# Altium schematic symbol library IND 15UH 3.2A 50 MOHM.Schlib: 1 symbol
Pins are listed as number, name and electrical type; pins without a type are passive.

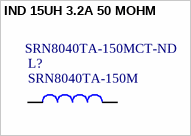
[diagram p0: symbol IND 15UH 3.2A 50 MOHM]

## IND 15UH 3.2A 50 MOHM
designator L?, comment SRN8040TA-150M  Supplier Part Number 1: SRN8040TA-150MCT-ND
15µH Semi-Shielded Wirewound Inductor 2.4A 70mOhm Max Nonstandard; MF: Bourns Inc.; MP: SRN8040TA-150M; Height - Seated (Max): 4.2mm; ComponentLink1Description: digikey; ComponentLink1URL: https://www.digikey.ca/en/products/detail/bourns-inc/SRU1048-8R2Y/2352912; Digikey: SRN8040TA-150MCT-ND; Digikey Link: https://www.digikey.ca/en/products/detail/bourns-inc/SRN8040TA-150M/6155130; Operating Temperature: -40°C ~ 125°C; Supplier 1: Digi-Key
footprint INDP8279X40M (Precision Wire Wound Inductor, 2-Leads, Body 8.15x7.90mm, IPC Low Density)
pins: 1, 2